# EAGLE library part LT1054 (library texas-custom)
The LT1054 is a bipolar, switched-capacitor voltage converter with regulator.
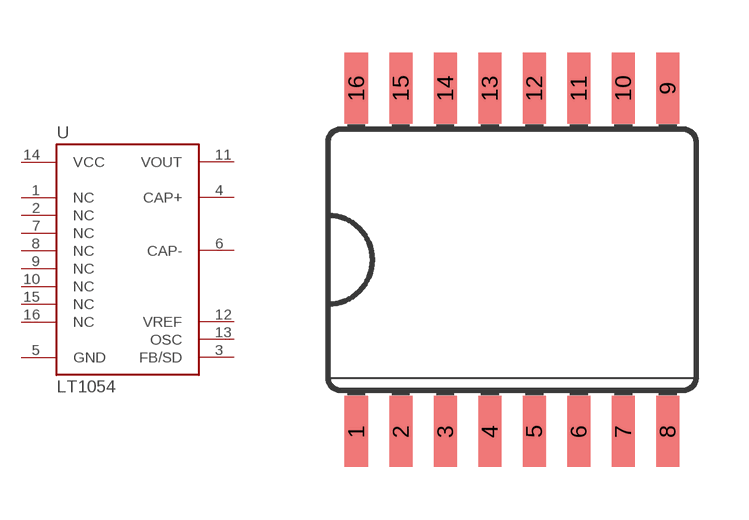
[diagram p0: symbol with the pads of SO16L; footprint SO16L]

Designator prefix -

## LT1054  [SO16L]
1  NC
2  NC
3  FB/SD
4  CAP+
5  GND
6  CAP-
7  NC
8  NC
9  NC
10  NC
11  VOUT
12  VREF
13  OSC
14  VCC
15  NC
16  NC

## Footprint SO16L (pad centres in mm)
Small Outline Package .300 SIOC Source: http://www.maxim-ic.com/cgi-bin/packages?pkg=16%2FSOIC%2E300&Type=Max
smd 0.66 x 2.032: 1 -4.445,-4.902; 2 -3.175,-4.902; 3 -1.905,-4.902; 4 -0.635,-4.902; 5 0.635,-4.902; 6 1.905,-4.902; 7 3.175,-4.902; 8 4.445,-4.902; 9 4.445,4.902; 10 3.175,4.902; 11 1.905,4.902; 12 0.635,4.902; 13 -0.635,4.902; 14 -1.905,4.902; 15 -3.175,4.902; 16 -4.445,4.902